# Altium footprint library OLED12836.PcbLib: 1 footprints
Each footprint in its own frame and in the unit in brackets; x right, y up, seen from the top. Pads: shape width x height; smd on the part's side, far side on the other; paste and mask are expansions set on the pad; w line width, h text height; cw(c..) or ccw(c..) is an arc to the next point about the centre after c.
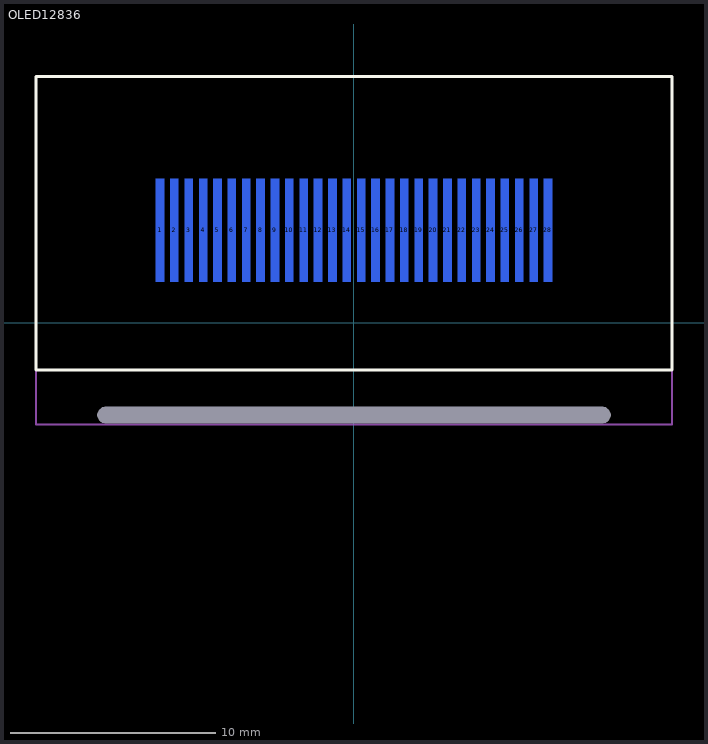
[diagram p0: the footprint, top view; thin cyan lines are the x and y axes]

## OLED12836 [mm] "Pitch0.7mm Body 31X14.3mm High 1.23mm"
height 1.23
pads (29):
  rect 0x0 hole 0.8 slot 25 at 0 deg unplated: 0(0,-4.5)
  rect 0.4x5 smd far side: 1(-9.45,4.5) 2(-8.75,4.5) 3(-8.05,4.5) 4(-7.35,4.5) 5(-6.65,4.5) 6(-5.95,4.5) 7(-5.25,4.5) 8(-4.55,4.5) 9(-3.85,4.5) 10(-3.15,4.5) 11(-2.45,4.5) 12(-1.75,4.5) 13(-1.05,4.5) 14(-0.35,4.5) 15(0.35,4.5) 16(1.05,4.5) 17(1.75,4.5) 18(2.45,4.5) 19(3.15,4.5) 20(3.85,4.5) 21(4.55,4.5) 22(5.25,4.5) 23(5.95,4.5) 24(6.65,4.5) 25(7.35,4.5) 26(8.05,4.5) 27(8.75,4.5) 28(9.45,4.5)
Top Overlay:
  lines w0.152: -15.5,-2.3 -15.5,12 15.5,12 15.5,-2.3 -15.5,-2.3
Bottom Overlay:
  lines w0.152: -10.625,4.5 -10.625,0 -5,-1.27 -5,-2.667 5,-2.667 5,-1.27 10.625,0 10.625,4.5
  text "1" at -10.45,5 h1
  text "28" at 11.75,4.9 h1
Mechanical 13:
  lines w0.1: -15.5,-4.953 15.5,-4.953 15.5,12 -15.5,12 -15.5,-4.953
Mechanical 15:
  lines w0.1: -15.5,-4.953 -15.5,12 15.5,12 15.5,-4.953 -15.5,-4.953